# EAGLE library part TPS630701 (library pimoroni-ics)
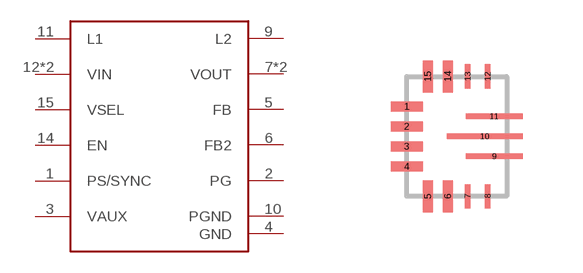
[diagram p54: symbol with the pads of TPS630701; footprint TPS630701]

Designator prefix U

## TPS630701  [TPS630701]
1  PS/SYNC
2  PG
3  VAUX
4  GND
5  FB
6  FB2
7  VOUT
8  VOUT
9  L2
10  PGND
11  L1
12  VIN
13  VIN
14  EN
15  VSEL

## Footprint TPS630701 (pad centres in mm)
smd 0.8 x 0.25: 1 -1.25,0.75; 2 -1.25,0.25; 3 -1.25,-0.25; 4 -1.25,-0.75
smd 0.25 x 0.8: 5 -0.725,-1.5; 6 -0.225,-1.5; 14 -0.225,1.5; 15 -0.725,1.5
smd 0.13 x 0.6: 7 0.275,-1.5; 8 0.775,-1.5; 12 0.775,1.5; 13 0.275,1.5
smd 1.425 x 0.13: 9 0.938,-0.5; 11 0.938,0.5
smd 1.9 x 0.13: 10 0.7,0